# Altium schematic symbol library VI-201.Schlib: 1 symbol
Pins are listed as number, name and electrical type; pins without a type are passive.

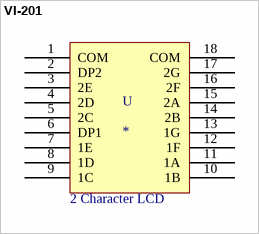
[diagram p0: symbol VI-201]

## VI-201
designator U
pins: 1 COM, 2 DP2, 3 2E, 4 2D, 5 2C, 6 DP1, 7 1E, 8 1D, 9 1C, 10 1B, 11 1A, 12 1F, 13 1G, 14 2B, 15 2A, 16 2F, 17 2G, 18 COM
text: 2 Character LCD